# EAGLE library part MSP430F2012IN (library me)
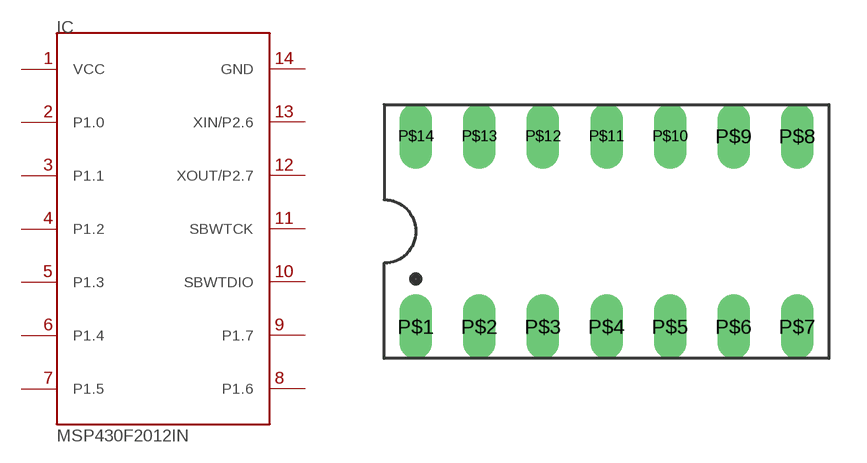
[diagram p0: symbol with the pads of DIP-14; footprint DIP-14]

Designator prefix IC

## MSP430F2012IN  [DIP-14]
P$1  VCC  pwr
P$2  P1.0
P$3  P1.1
P$4  P1.2
P$5  P1.3
P$6  P1.4
P$7  P1.5
P$8  P1.6
P$9  P1.7
P$10  SBWTDIO
P$11  SBWTCK
P$12  XOUT/P2.7
P$13  XIN/P2.6
P$14  GND  pwr

## Footprint DIP-14 (pad centres in mm)
drill 0.8 long: P$1 -7.62,-3.81; P$2 -5.08,-3.81; P$3 -2.54,-3.81; P$4 0,-3.81; P$5 2.54,-3.81; P$6 5.08,-3.81; P$7 7.62,-3.81; P$8 7.62,3.81; P$9 5.08,3.81; P$10 2.54,3.81; P$11 0,3.81; P$12 -2.54,3.81; P$13 -5.08,3.81; P$14 -7.62,3.81